# Altium footprint library CP112V.PcbLib: 1 footprints
Each footprint in its own frame and in the unit in brackets; x right, y up, seen from the top. Pads: shape width x height; smd on the part's side, far side on the other; paste and mask are expansions set on the pad; w line width, h text height; cw(c..) or ccw(c..) is an arc to the next point about the centre after c.
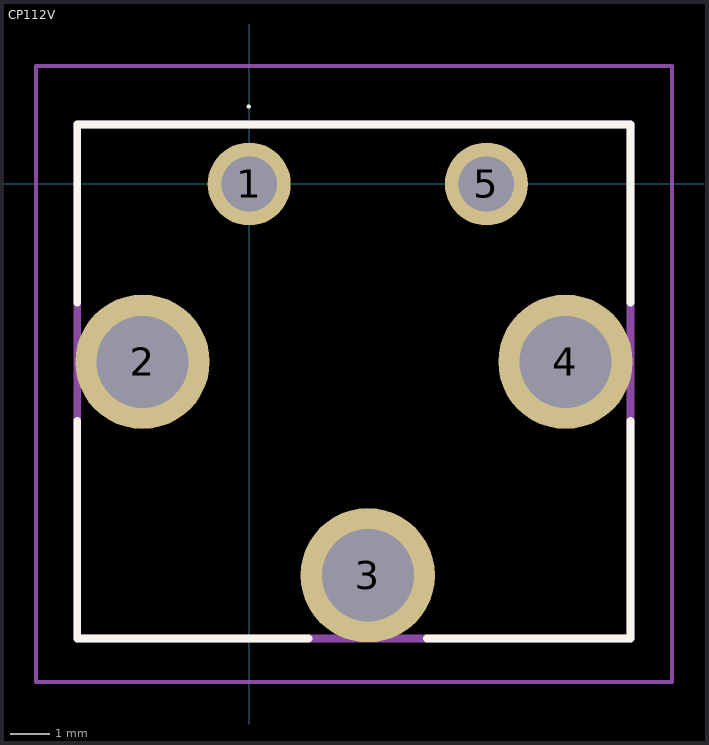
[diagram p0: the footprint, top view; thin cyan lines are the x and y axes]

## CP112V [mm]
pads (5):
  round 2.1 hole 1.4: 1(0,0) 5(6,0)
  round 3.4 hole 2.33: 2(-2.7,-4.5) 3(3,-9.9) 4(8,-4.5)
Top Overlay:
  lines w0.053: 0.014,1.956 cw(c-0.012,1.956) -0.038,1.956 cw(c-0.012,1.956) 0.014,1.956 ; 0.014,1.956 0.014,1.956 ; -0.039,1.956 -0.039,1.956
  lines w0.2: -4.35,-6 -4.35,-11.5 1.5,-11.5 ; -4.35,-3 -4.35,1.5 9.65,1.5 9.65,-3 ; 4.5,-11.5 9.5,-11.5 9.65,-11.5 9.65,-6
Mechanical 15:
  lines w0.2: -4.35,-11.5 9.65,-11.5 9.65,1.5 -4.35,1.5 -4.35,-11.5
Mechanical 20:
  lines w0.1: -5.399,-12.6 10.7,-12.6 10.7,2.983 -5.399,2.983 -5.399,-12.6
3D body "CP1-12V.stp": height 5.8, standoff -4.65, extent -10,-3.376 10,3.376